# Altium footprint library triac.PCBLIB: 35 footprints (part 1 of 3)
Each footprint in its own frame and in the unit in brackets; x right, y up, seen from the top. Pads: shape width x height; smd on the part's side, far side on the other; paste and mask are expansions set on the pad; w line width, h text height; cw(c..) or ccw(c..) is an arc to the next point about the centre after c.
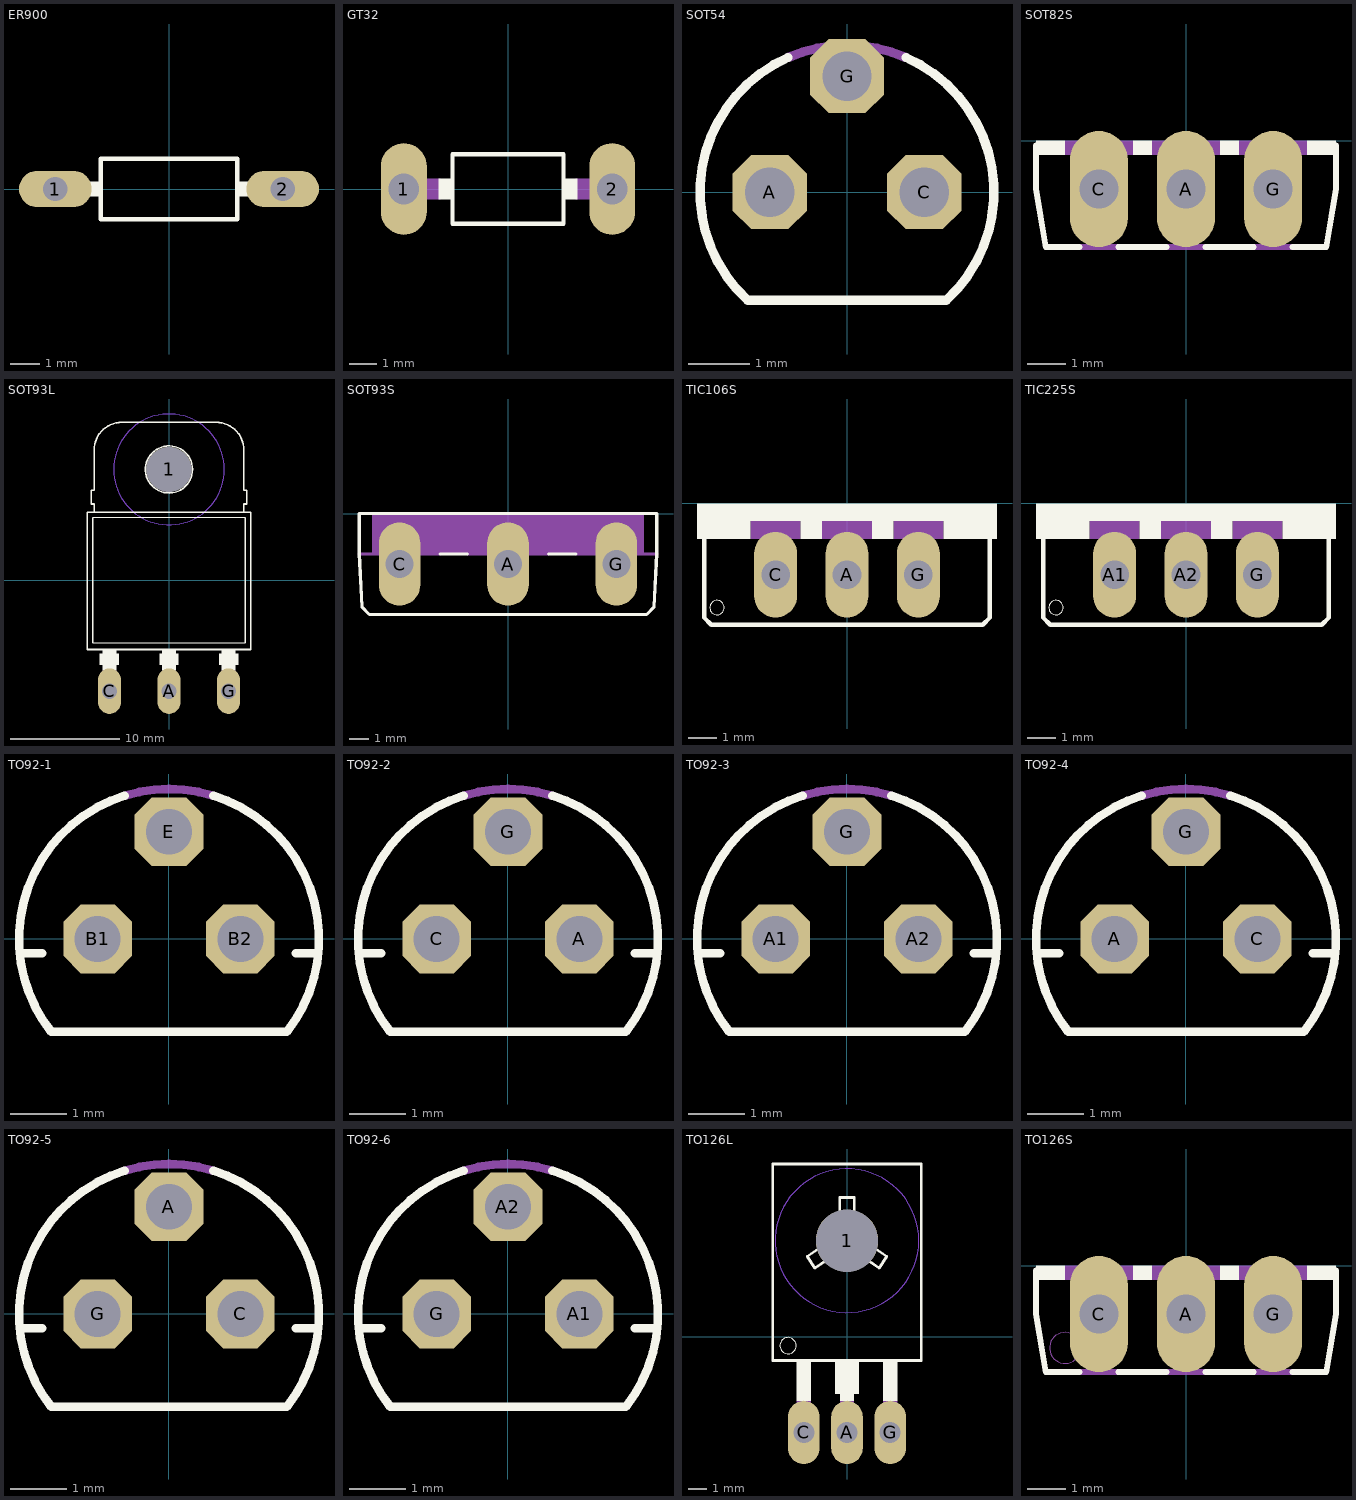
[diagram p0: the footprints below, top view; thin cyan lines are the x and y axes]

## ER900 [mil]
pads (2):
  oval 96x48 hole 32: 1(-150,0) 2(150,0)
Top Overlay:
  rectangle: -113,-10 -90,10
  rectangle: 90,-10 113,10
  lines w6: -90,-40 90,-40 90,40 -90,40 -90,-40
Mechanical 16:
  lines w20: -150,0 -115,0 ; 115,0 150,0

## GT32 [mil]
pads (2):
  oval 66x132 hole 44: 1(-150,0) 2(150,0)
Top Overlay:
  rectangle: -100,-15 -80,15
  rectangle: 80,-15 100,15
  lines w6: -80,-50 80,-50 80,50 -80,50 -80,-50
Mechanical 16:
  lines w30: -150,0 -100,0 ; 100,0 150,0

## SOT54 [mil]
pads (3):
  oct 48x48 hole 32: A(-50,0) C(50,0) G(0,75)
Top Overlay:
  lines w6: -38.15,87 ccw(c0.01,0) -64.21,-70 64.21,-70 ccw(c-0.01,0) 38.15,87
Mechanical 16:
  lines w6: -38.16,87 cw(c0,-0.01) 38.16,87

## SOT82S [mil]
pads (3):
  oval 60x120 hole 40: A(0,-50) C(-90,-50) G(90,-50)
Top Overlay:
  rectangle: -155,-15 -125,0
  rectangle: -55,-15 -35,0
  rectangle: 35,-15 55,0
  rectangle: 125,-15 155,0
  lines w6: -155,-5 -155,-50 -145,-110 -110,-110 ; -70,-110 -20,-110 ; 20,-110 70,-110 ; 110,-110 145,-110 155,-50 155,-5
Mechanical 16:
  rectangle: -125,-15 -55,0
  rectangle: -35,-15 35,0
  rectangle: 55,-15 125,0
  lines w6: -110,-110 -70,-110 ; -20,-110 20,-110 ; 70,-110 110,-110

## SOT93L [mil]
pads (4):
  round 162 hole 162: 1(0,400)
  oval 82.5x165 hole 55: A(0,-400) C(-215,-400) G(215,-400)
Bottom Layer keep-out:
  circle w0: c0,400 r200
Top Overlay:
  circle w6: c0,400 r85
  rectangle: -250,-305 -180,-265
  rectangle: 180,-305 250,-265
  rectangle: -240,-325 -190,-250
  rectangle: -25,-325 25,-250
  rectangle: 190,-325 240,-250
  rectangle: -35,-305 35,-265
  lines w2: -275,-225 275,-225 ; -275,225 275,225
  lines w6: -275,-225 -275,225 ; 275,-225 275,225 ; -270,245 -270,275 -280,275 -280,325 -270,325 -270,470 cw(c-170,470) -170,570 170,570 cw(c170,470) 270,470 270,325 280,325 280,275 270,275 270,245 ; -270,245 -295,245 -295,-250 295,-250 295,245 270,245 ; -270,245 270,245
Mechanical 16:
  rectangle: -240,-385 -190,-350
  rectangle: -240,-400 -190,-325
  rectangle: -25,-400 25,-325
  rectangle: 190,-400 240,-325
Via Holes:
  circle w0: c0,400 r200

## SOT93S [mil]
pads (3):
  oval 82.5x165 hole 55: A(0,-100) C(-215,-100) G(215,-100)
Top Overlay:
  lines w6: -135,-80 -80,-80 ; 80,-80 135,-80 ; -295,-80 -295,0 295,0 295,-80 290,-185 275,-200 -275,-200 -290,-185 -295,-80
Mechanical 16:
  rectangle: -270,-80 270,0
  lines w6: -295,-80 -135,-80 ; -80,-80 80,-80 ; 135,-80 295,-80

## TIC106S [mil]
pads (3):
  oval 60x120 hole 40: A(0,-100) C(-100,-100) G(100,-100)
Top Overlay:
  circle w0: c-182,-146 r10
  rectangle: -210,-25 210,0
  rectangle: -210,-50 -135,-25
  rectangle: -65,-50 -35,-25
  rectangle: 35,-50 65,-25
  rectangle: 135,-50 210,-25
  lines w6: -200,-45 -200,-160 -190,-170 190,-170 200,-160 200,-45
Mechanical 16:
  rectangle: -135,-50 -65,-25
  rectangle: -35,-50 35,-25
  rectangle: 65,-50 135,-25

## TIC225S [mil]
pads (3):
  oval 60x120 hole 40: A1(-100,-100) A2(0,-100) G(100,-100)
Top Overlay:
  circle w0: c-182,-146 r10
  rectangle: -210,-25 210,0
  rectangle: -210,-50 -135,-25
  rectangle: -65,-50 -35,-25
  rectangle: 35,-50 65,-25
  rectangle: 135,-50 210,-25
  lines w6: -200,-45 -200,-160 -190,-170 190,-170 200,-160 200,-45
Mechanical 16:
  rectangle: -135,-50 -65,-25
  rectangle: -35,-50 35,-25
  rectangle: 65,-50 135,-25

## TO92-1 [mil]
pads (3):
  oct 48x48 hole 32: B1(-50,0) B2(50,0) E(0,75)
Top Overlay:
  lines w6: -104.53,-10 -88.74,-10 ; -82.48,-65 82.48,-65 ccw(c0.02,0) 30.98,100.33 ; -82.46,-65 cw(c0,0) -30.96,100.33 ; 88.74,-10 104.53,-10
Mechanical 16:
  lines w6: -30.96,100.33 cw(c0,-0.02) 30.96,100.33

## TO92-2 [mil]
pads (3):
  oct 48x48 hole 32: A(50,0) C(-50,0) G(0,75)
Top Overlay:
  lines w6: -104.53,-10 -88.74,-10 ; -82.48,-65 82.48,-65 ccw(c0.02,0) 30.98,100.33 ; -82.46,-65 cw(c0,0) -30.96,100.33 ; 88.74,-10 104.53,-10
Mechanical 16:
  lines w6: -30.96,100.33 cw(c0,-0.02) 30.96,100.33

## TO92-3 [mil]
pads (3):
  oct 48x48 hole 32: A1(-50,0) A2(50,0) G(0,75)
Top Overlay:
  lines w6: -104.53,-10 -88.74,-10 ; -82.48,-65 82.48,-65 ccw(c0.02,0) 30.98,100.33 ; -82.46,-65 cw(c0,0) -30.96,100.33 ; 88.74,-10 104.53,-10
Mechanical 16:
  lines w6: -30.96,100.33 cw(c0,-0.02) 30.96,100.33

## TO92-4 [mil]
pads (3):
  oct 48x48 hole 32: A(-50,0) C(50,0) G(0,75)
Top Overlay:
  lines w6: -104.53,-10 -88.74,-10 ; -82.48,-65 82.48,-65 ccw(c0.02,0) 30.98,100.33 ; -82.46,-65 cw(c0,0) -30.96,100.33 ; 88.74,-10 104.53,-10
Mechanical 16:
  lines w6: -30.96,100.33 cw(c0,-0.02) 30.96,100.33

## TO92-5 [mil]
pads (3):
  oct 48x48 hole 32: A(0,75) C(50,0) G(-50,0)
Top Overlay:
  lines w6: -104.53,-10 -88.74,-10 ; -82.48,-65 82.48,-65 ccw(c0.02,0) 30.98,100.33 ; -82.46,-65 cw(c0,0) -30.96,100.33 ; 88.74,-10 104.53,-10
Mechanical 16:
  lines w6: -30.96,100.33 cw(c0,-0.02) 30.96,100.33

## TO92-6 [mil]
pads (3):
  oct 48x48 hole 32: A1(50,0) A2(0,75) G(-50,0)
Top Overlay:
  lines w6: -104.53,-10 -88.74,-10 ; -82.48,-65 82.48,-65 ccw(c0.02,0) 30.98,100.33 ; -82.46,-65 cw(c0,0) -30.96,100.33 ; 88.74,-10 104.53,-10
Mechanical 16:
  lines w6: -30.96,100.33 cw(c0,-0.02) 30.96,100.33

## TO126L [mil]
pads (4):
  round 130 hole 130: 1(0,200)
  oval 66x132 hole 44: A(0,-200) C(-90,-200) G(90,-200)
Bottom Layer keep-out:
  circle w0: c0,200 r150
Top Overlay:
  circle w0: c-123,-19 r17
  circle w6: c0,200 r57
  rectangle: -25,-120 25,-50
  rectangle: -105,-135 -75,-50
  rectangle: -15,-135 15,-50
  rectangle: 75,-135 105,-50
  lines w6: 59,196 58,184 83,167 67,143 44,159 36,152 30,148 22,144 10,141 -2,140 -16,142 -26,146 -34,151 -43,159 -67,143 -83,167 -58,184 -60,196 -60,205 -58,215 -54,226 -47,237 -36,248 -23,256 -15,258 -15,290 15,290 15,258 20,257 28,253 36,248 43,242 49,234 54,225 57,217 59,206 59,197 ; -155,-50 -155,360 155,360 155,-50 -155,-50
Mechanical 16:
  rectangle: -105,-205 -75,-135
  rectangle: -15,-205 15,-135
  rectangle: 75,-205 105,-135
Via Holes:
  circle w0: c0,200 r150

## TO126S [mil]
pads (3):
  oval 60x120 hole 40: A(0,-50) C(-90,-50) G(90,-50)
Top Overlay:
  rectangle: -155,-15 -125,0
  rectangle: -55,-15 -35,0
  rectangle: 35,-15 55,0
  rectangle: 125,-15 155,0
  lines w6: -155,-5 -155,-50 -145,-110 -110,-110 ; -70,-110 -20,-110 ; 20,-110 70,-110 ; 110,-110 145,-110 155,-50 155,-5
Mechanical 16:
  circle w0: c-125,-85 r16
  rectangle: -125,-15 -55,0
  rectangle: -35,-15 35,0
  rectangle: 55,-15 125,0
  lines w6: -110,-110 -70,-110 ; -20,-110 20,-110 ; 70,-110 110,-110